# Altium schematic symbol library EMG_PATCH.SchLib: 9 symbols
Pins are listed as number, name and electrical type; pins without a type are passive.

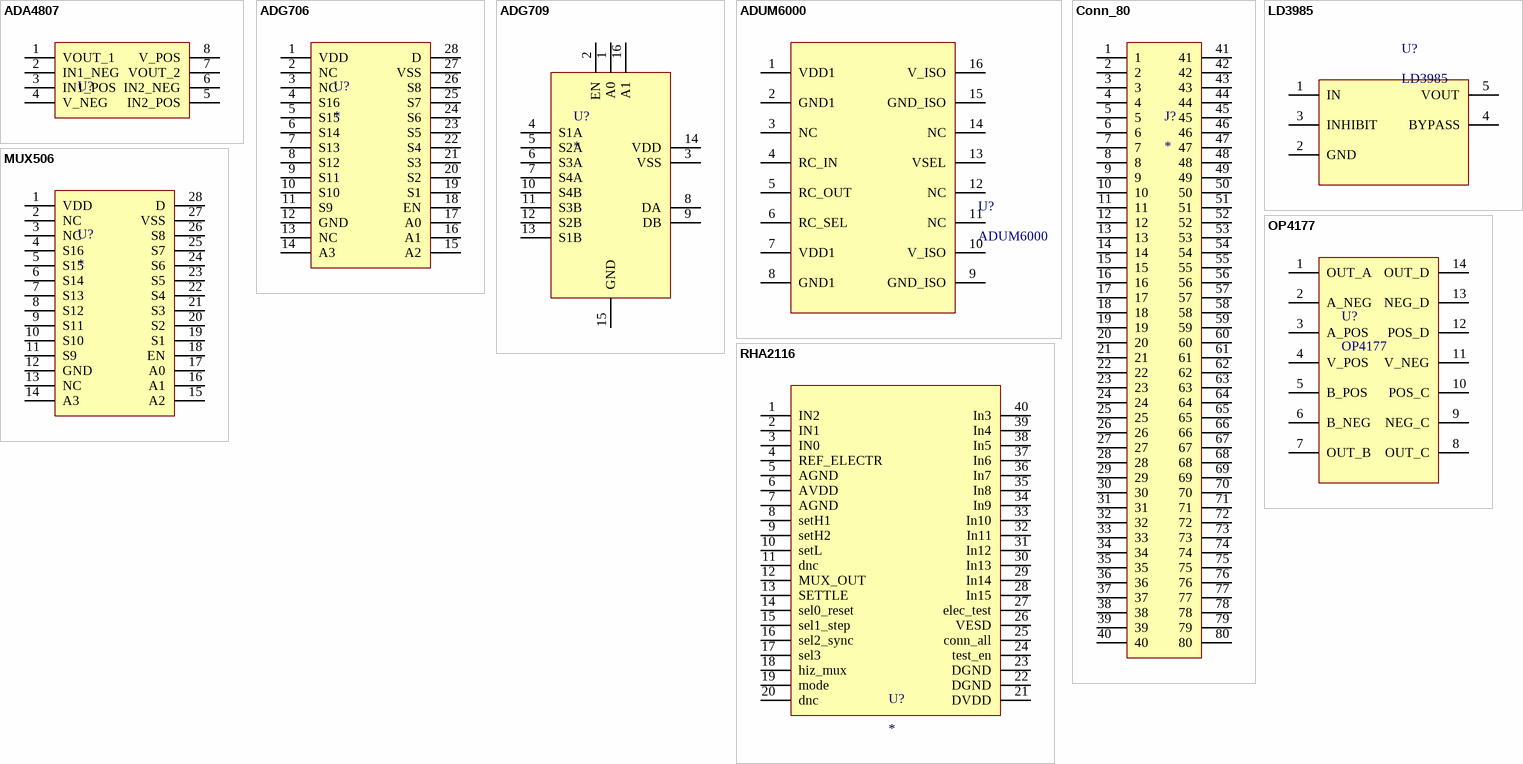
[diagram p0: symbols ADA4807 to RHA2116]

## ADA4807
designator U?  (value not drawn)
footprint MSOP8
pins: 1 VOUT_1, 2 IN1_NEG, 3 IN1_POS, 4 V_NEG, 5 IN2_POS, 6 IN2_NEG, 7 VOUT_2, 8 V_POS

## ADG706
designator U?
footprint TSSOP28
pins: 1 VDD, 2 NC, 3 NC, 4 S16, 5 S15, 6 S14, 7 S13, 8 S12, 9 S11, 10 S10, 11 S9, 12 GND, 13 NC, 14 A3, 15 A2, 16 A1, 17 A0, 18 EN, 19 S1, 20 S2, 21 S3, 22 S4, 23 S5, 24 S6, 25 S7, 26 S8, 27 VSS, 28 D

## ADG709
designator U?
footprint TSSOP16 (TSSOP28)
pins: 1 A0, 2 EN, 3 VSS, 4 S1A, 5 S2A, 6 S3A, 7 S4A, 8 DA, 9 DB, 10 S4B, 11 S3B, 12 S2B, 13 S1B, 14 VDD, 15 GND, 16 A1

## ADUM6000
designator U?
footprint SOL-16_L (16-Pin Small Outline Integrated Circuit 1.27 mm Pitch, IPC High Density)
pins: 1 VDD1, 2 GND1, 3 NC, 4 RC_IN, 5 RC_OUT, 6 RC_SEL, 7 VDD1, 8 GND1, 9 GND_ISO, 10 V_ISO, 11 NC, 12 NC, 13 VSEL, 14 NC, 15 GND_ISO, 16 V_ISO

## Conn_80
designator J?
footprint TE_CONNECTOR_80 (80_pin_connector)
pins: 1, 2, 3, 4, 5, 6, 7, 8, 9, 10, 11, 12, 13, 14, 15, 16, 17, 18, 19, 20, 21, 22, 23, 24, 25, 26, 27, 28, 29, 30, 31, 32, 33, 34, 35, 36, 37, 38, 39, 40, 41, 42, 43, 44, 45, 46, 47, 48, 49, 50, 51, 52, 53, 54, 55, 56, 57, 58, 59, 60, 61, 62, 63, 64, 65, 66, 67, 68, 69, 70, 71, 72, 73, 74, 75, 76, 77, 78, 79, 80

## LD3985
designator U?
footprint SOT23-5AL (SOT23, 5-Leads, Body 2.9x1.6mm, Pitch 0.95mm, Lead Span 2.8mm, IPC High Density)
pins: 1 IN, 2 GND, 3 INHIBIT, 4 BYPASS, 5 VOUT

## MUX506
designator U?
footprint TSSOP28
pins: 1 VDD, 2 NC, 3 NC, 4 S16, 5 S15, 6 S14, 7 S13, 8 S12, 9 S11, 10 S10, 11 S9, 12 GND, 13 NC, 14 A3, 15 A2, 16 A1, 17 A0, 18 EN, 19 S1, 20 S2, 21 S3, 22 S4, 23 S5, 24 S6, 25 S7, 26 S8, 27 VSS, 28 D

## OP4177
designator U?
footprint TSSOP14
pins: 1 OUT_A, 2 A_NEG, 3 A_POS, 4 V_POS, 5 B_POS, 6 B_NEG, 7 OUT_B, 8 OUT_C, 9 NEG_C, 10 POS_C, 11 V_NEG, 12 POS_D, 13 NEG_D, 14 OUT_D

## RHA2116
designator U?
footprint qfn40
pins: 1 IN2, 2 IN1, 3 IN0, 4 REF_ELECTR, 5 AGND, 6 AVDD, 7 AGND, 8 setH1, 9 setH2, 10 setL, 11 dnc, 12 MUX_OUT, 13 SETTLE, 14 sel0_reset, 15 sel1_step, 16 sel2_sync, 17 sel3, 18 hiz_mux, 19 mode, 20 dnc, 21 DVDD, 22 DGND, 23 DGND, 24 test_en, 25 conn_all, 26 VESD, 27 elec_test, 28 In15, 29 In14, 30 In13, 31 In12, 32 In11, 33 In10, 34 In9, 35 In8, 36 In7, 37 In6, 38 In5, 39 In4, 40 In3